# Altium integrated library LM1085IT-5.0.IntLib: 1 symbol
Pins are listed as number, name and electrical type; pins without a type are passive.

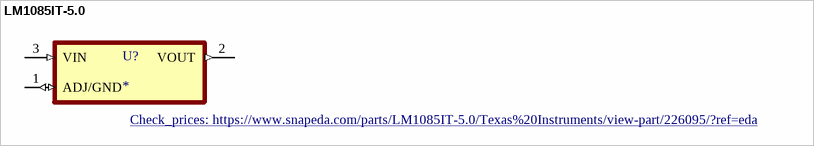
[diagram p0: symbol LM1085IT-5.0]

## LM1085IT-5.0
designator U?
3-A, 29-V, linear voltage regulator 3-TO-220; MP: LM1085IT-5.0; MF: Texas Instruments; SnapEDA_Link: https://www.snapeda.com/parts/LM1085IT-5.0/Texas%20Instruments/view-part/226095/?ref=snap; Price: None; Availability: Warning; Value: *; Purchase-URL: https://pricing.snapeda.com/search/part/LM1085IT-5.0/?ref=eda; Package: TO-220-3 Texas Instruments; Check_prices: https://www.snapeda.com/parts/LM1085IT-5.0/Texas%20Instruments/view-part/226095/?ref=eda
footprint TO254P1054X470X1955-3
pins: 1 ADJ/GND (io), 2 VOUT (out), 3 VIN (in)